# Altium footprint library PcbLib1.PcbLib: 32 footprints (part 1 of 2)
Each footprint in its own frame and in the unit in brackets; x right, y up, seen from the top. Pads: shape width x height; smd on the part's side, far side on the other; paste and mask are expansions set on the pad; w line width, h text height; cw(c..) or ccw(c..) is an arc to the next point about the centre after c.
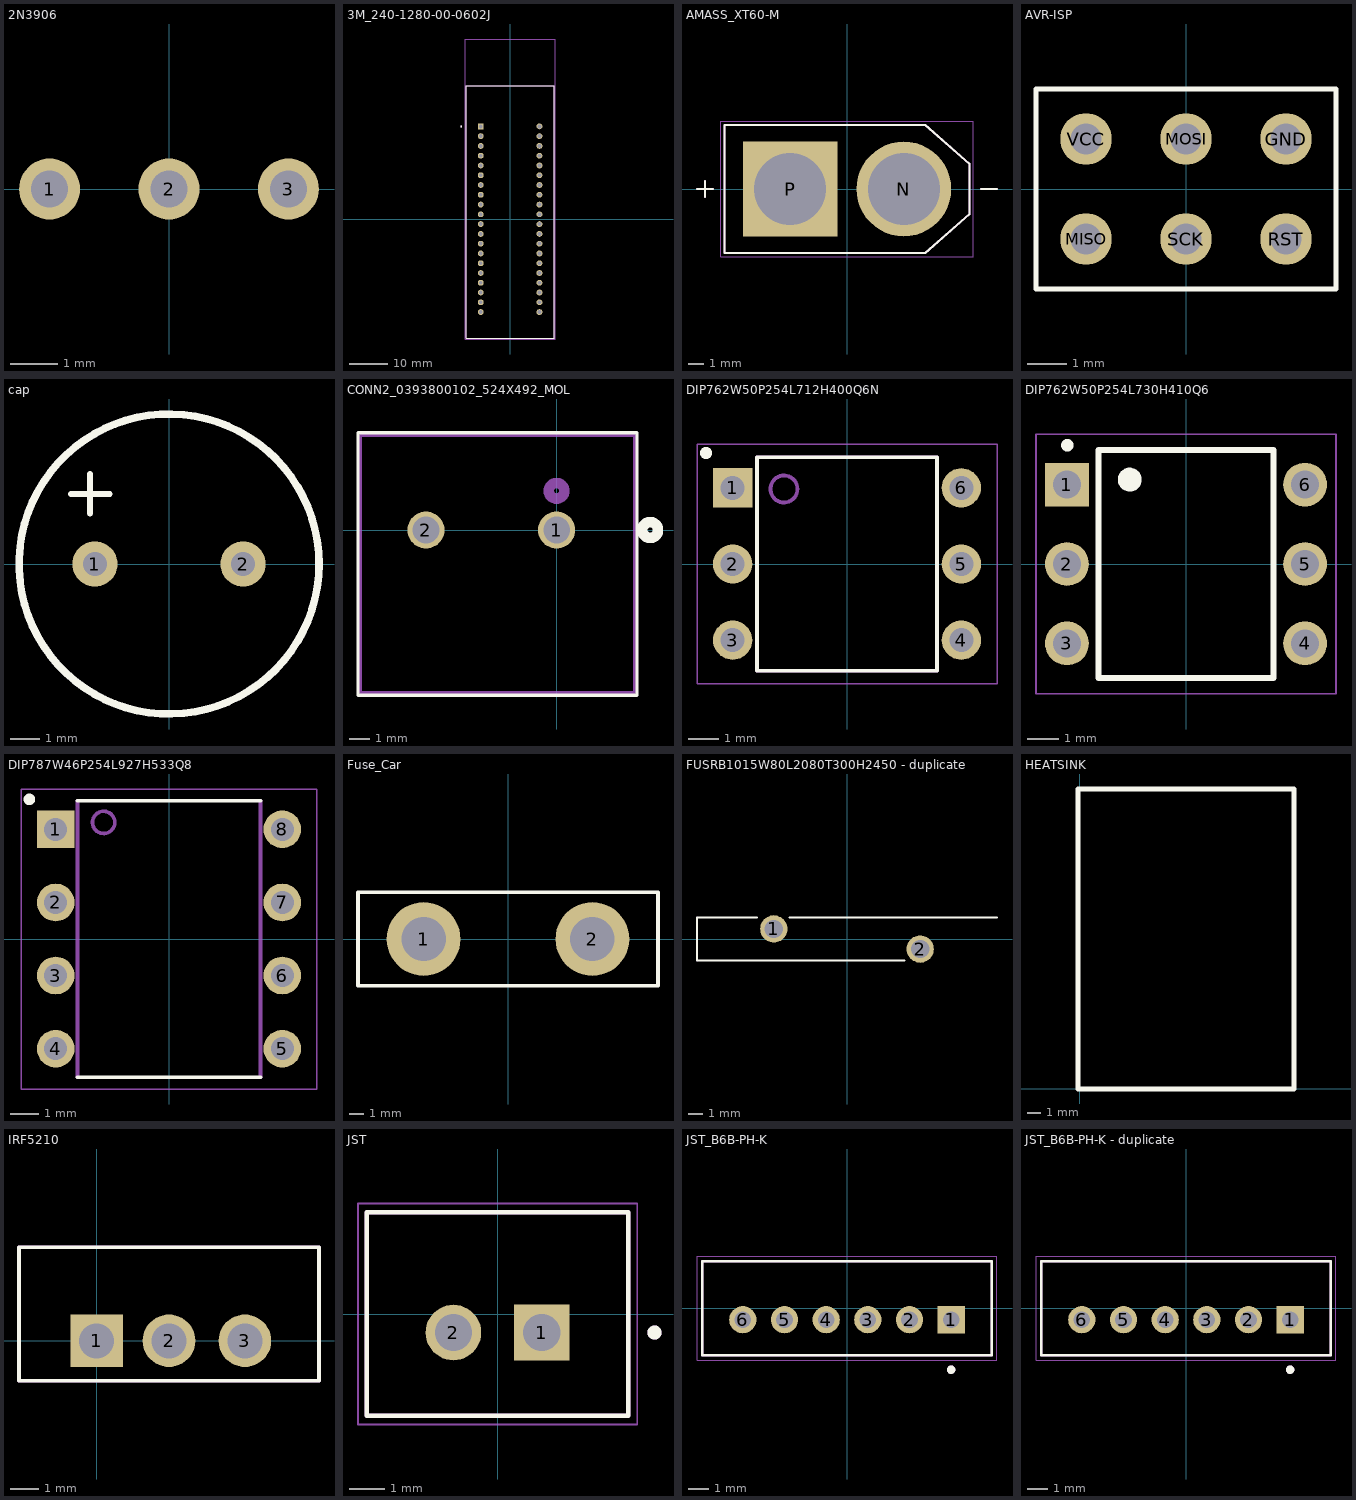
[diagram p0: the footprints below, top view; thin cyan lines are the x and y axes]

## 2N3906 [mm]
height 7.5
pads (3):
  round 1.298 hole 0.79: 1(-2.54,0) 2(0,0) 3(2.54,0)
3D body "step_temp.STEP": height 8.09, standoff -9.01, extent -2.74,-1.27 2.74,2.33

## 3M_240-1280-00-0602J [mm]
height 23.6
pads (40):
  rect 1.508x1.508 / inner round 1.508 / far side rect 1.508x1.508 hole 1: 1(-7.62,24.13)
  round 1.508 hole 1: 2(-7.62,21.59) 3(-7.62,19.05) 4(-7.62,16.51) 5(-7.62,13.97) 6(-7.62,11.43) 7(-7.62,8.89) 8(-7.62,6.35) 9(-7.62,3.81) 10(-7.62,1.27) 11(-7.62,-1.27) 12(-7.62,-3.81) 13(-7.62,-6.35) 14(-7.62,-8.89) 15(-7.62,-11.43) 16(-7.62,-13.97) 17(-7.62,-16.51) 18(-7.62,-19.05) 19(-7.62,-21.59) 20(-7.62,-24.13) 21(7.62,-24.13) 22(7.62,-21.59) 23(7.62,-19.05) 24(7.62,-16.51) 25(7.62,-13.97) 26(7.62,-11.43) 27(7.62,-8.89) 28(7.62,-6.35) 29(7.62,-3.81) 30(7.62,-1.27) 31(7.62,1.27) 32(7.62,3.81) 33(7.62,6.35) 34(7.62,8.89) 35(7.62,11.43) 36(7.62,13.97) 37(7.62,16.51) 38(7.62,19.05) 39(7.62,21.59) 40(7.62,24.13)
Top Overlay:
  circle w0.2: c-12.7,24.13 r0.1
  lines w0.127: -11.45,-30.87 11.45,-30.87 11.45,34.63 -11.45,34.63 -11.45,-30.87
Mechanical 13:
  circle w0.2: c-12.7,24.13 r0.1
  lines w0.127: -11.45,-30.87 11.45,-30.87 11.45,34.63 -11.45,34.63 -11.45,-30.87
Mechanical 15:
  lines w0.05: -11.7,-31.12 -11.7,46.83 11.7,46.83 11.7,-31.12 -11.7,-31.12
3D body "step_temp.STEP": height 23.62, standoff -2.79, extent -11.62,-30.353 12.128,35.179

## AMASS_XT60-M [mm]
height 16
pads (2):
  round 6 hole 4.55: N(3.6,0)
  rect 6x6 / inner round 6 / far side rect 6x6 hole 4.55: P(-3.6,0)
Top Overlay:
  lines w0.127: -9.5,0 -8.5,0 ; -9,-0.5 -9,0.5 ; 8.5,0 9.5,0 ; -7.75,-4.05 -7.75,4.05 4.95,4.05 7.75,1.6 7.75,-1.6 4.95,-4.05 -7.75,-4.05
Mechanical 13:
  lines w0.127: -9.5,0 -8.5,0 ; -9,-0.5 -9,0.5 ; 8.5,0 9.5,0 ; -7.75,-4.05 -7.75,4.05 4.95,4.05 7.75,1.6 7.75,-1.6 4.95,-4.05 -7.75,-4.05
Mechanical 15:
  lines w0.05: -8,-4.3 8,-4.3 8,4.3 -8,4.3 -8,-4.3
3D body "step_temp.STEP": height 16, standoff -4.5, extent -7.75,-4.05 7.75,4.05

## AVR-ISP [mm]
pads (6):
  round 1.308 hole 0.8: GND(2.54,1.27) MISO(-2.54,-1.27) MOSI(0,1.27) RST(2.54,-1.27) SCK(0,-1.27) VCC(-2.54,1.27)
Top Overlay:
  lines w0.127: -3.81,-2.54 3.81,-2.54 3.81,2.54 -3.81,2.54 -3.81,-2.54

## cap [mil]
pads (2):
  round 60 hole 31.5: 1(-98.43,0) 2(98.43,0)
Top Overlay:
  circle w10: c0,0 r199.25
  lines w7.87: -130.31,92.91 -78.74,92.91 ; -104.72,67.32 -104.72,119.29
Board Shape:
  text ".Designator" at 5.91,19.02 h39.37
3D body "EEU-FC1V221E.STEP": height 492.13, standoff -669.29, extent -194,-196.85 199.25,196.85

## CONN2_0393800102_524X492_MOL [mil]
pads (2):
  round 71 hole 51: 1(0,0) 2(-250,0)
Top Overlay:
  lines w6: -380,-316 154,-316 154,186 -380,186 -380,-316
  lines w20: 164,0 ccw(c179,0) 194,0 ccw(c179,0) 164,0
Bottom Overlay:
  lines w20: 164,0 ccw(c179,0) 194,0 ccw(c179,0) 164,0
Mechanical 13:
  lines w6: -375,-311 149,-311 149,181 -375,181 -375,-311
  lines w20: -15,75 ccw(c0,75) 15,75 ccw(c0,75) -15,75

## DIP762W50P254L712H400Q6N [mm]
pads (6):
  rect 1.308x1.308 / inner round 1.308 / far side rect 1.308x1.308 hole 0.8: 1(-3.81,2.54)
  round 1.308 hole 0.8: 2(-3.81,0) 3(-3.81,-2.54) 4(3.81,-2.54) 5(3.81,0) 6(3.81,2.54)
Top Overlay:
  circle w0.2: c-4.7,3.7 r0.1
  lines w0.127: -3,-3.56 3,-3.56 3,3.56 -3,3.56 -3,-3.56
Mechanical 13:
  circle w0.127: c-2.1,2.5 r0.45
  lines w0.127: -3,-3.56 3,-3.56 3,3.56 -3,3.56 -3,-3.56
Mechanical 15:
  lines w0.05: -5,-4 5,-4 5,4 -5,4 -5,-4
3D body "step_temp.STEP": height 4, standoff -3, extent -3.976,-3.56 3.976,3.56

## DIP762W50P254L730H410Q6 [mm]
pads (6):
  rect 1.4x1.4 / inner round 1.4 / far side rect 1.4x1.4 hole 0.9: 1(-3.81,2.54)
  round 1.4 hole 0.9: 2(-3.81,0) 3(-3.81,-2.54) 4(3.81,-2.54) 5(3.81,0) 6(3.81,2.54)
Top Overlay:
  circle w0.2: c-3.8,3.8 r0.1
  circle w0.2: c-1.8,2.7 r0.283
  lines w0.2: -1.8,2.7 -2,2.6 ; -2,2.6 -1.7,2.5 -1.6,2.7 -1.8,2.9 -2,2.6 ; -2.8,-3.65 -2.8,3.65 2.8,3.65 2.8,-3.65 -2.8,-3.65
Mechanical 15:
  lines w0.05: -4.8,-4.15 -4.8,4.15 4.8,4.15 4.8,-4.15 -4.8,-4.15
3D body "step_temp.STEP": height 4.8, standoff -3, extent -4.446,-3.71 4.446,3.71

## DIP787W46P254L927H533Q8 [mm]
pads (8):
  rect 1.308x1.308 / inner round 1.308 / far side rect 1.308x1.308 hole 0.8 mask+0.102: 1(-3.935,3.81)
  round 1.308 hole 0.8 mask+0.102: 2(-3.935,1.27) 3(-3.935,-1.27) 4(-3.935,-3.81) 5(3.935,-3.81) 6(3.935,-1.27) 7(3.935,1.27) 8(3.935,3.81)
Top Overlay:
  circle w0.2: c-4.85,4.85 r0.1
  lines w0.127: -3.18,-4.8 3.18,-4.8 ; -3.18,4.8 3.18,4.8
Mechanical 13:
  circle w0.127: c-2.27,4.05 r0.386
  lines w0.127: -3.18,-4.8 -3.18,4.8 ; 3.18,-4.8 3.18,4.8
Mechanical 15:
  lines w0.05: -5.13,-5.21 -5.13,5.21 5.13,5.21 5.13,-5.21 -5.13,-5.21
3D body "step_temp.STEP": height 4.32, standoff -3, extent -4.185,-4.89 4.185,4.89

## Fuse_Car [mm]
pads (2):
  round 5 hole 3: 1(-5.715,0) 2(5.715,0)
Top Overlay:
  lines w0.254: -10.16,-3.175 -10.16,3.175 10.16,3.175 10.16,-3.175 -10.16,-3.175
3D body "Fuse_Blade - 1 to 40A - 32V.SLDPRT": height 12.31, standoff -6.49, extent -9.55,-2.56 9.55,2.54

## FUSRB1015W80L2080T300H2450 - duplicate [mm]
pads (2):
  round 1.894 hole 1.263: 1(-5.075,0.7) 2(5.075,-0.7)
Top Overlay:
  lines w0.127: -6.25,1.5 -10.4,1.5 -10.4,-1.5 4,-1.5 ; -4,1.5 10.4,1.5
Mechanical 13:
  lines w0.127: -10.4,-1.5 -10.4,1.5
3D body "step_temp.STEP": height 25.4, standoff -7.6, extent -10.4,-1.5 10.4,1.5

## HEATSINK [mil]
Top Overlay:
  lines w14.57: -5,0 -5,890 635,890 635,0 -5,0

## IRF5210 [mm]
height 19.3
pads (3):
  rect 1.85x1.85 / inner round 1.85 / far side rect 1.85x1.85 hole 1.23: 1(0,0)
  round 1.85 hole 1.23: 2(2.54,0) 3(5.207,0)
Top Overlay:
  lines w0.127: -2.73,-1.41 7.81,-1.41 7.81,3.29 -2.73,3.29 -2.73,-1.41
Mechanical 13:
  lines w0.127: -2.73,-1.41 7.81,-1.41 7.81,3.29 -2.73,3.29 -2.73,-1.41
3D body "step_temp.STEP": height 19.3, standoff -10.03, extent -2.921,-1.27 7.493,3.175

## JST [mm]
height 7
pads (2):
  rect 1.575x1.575 / inner round 1.575 / far side rect 1.575x1.575 hole 1.05: 1(1.25,-0.525)
  round 1.575 hole 1.05: 2(-1.25,-0.525)
Top Overlay:
  circle w0.2: c4.44,-0.525 r0.1
  lines w0.127: -3.7,-2.875 3.7,-2.875 3.7,2.875 -3.7,2.875 -3.7,-2.875
Mechanical 13:
  circle w0.2: c4.44,-0.525 r0.1
  lines w0.127: -3.7,-2.875 3.7,-2.875 3.7,2.875 -3.7,2.875 -3.7,-2.875
Mechanical 15:
  lines w0.05: -3.95,-3.125 -3.95,3.125 3.95,3.125 3.95,-3.125 -3.95,-3.125

## JST_B6B-PH-K [mm]
pads (6):
  rect 1.308x1.308 / inner round 1.308 / far side rect 1.308x1.308 hole 0.8: 1(5,-0.55)
  round 1.308 hole 0.8: 2(3,-0.55) 3(1,-0.55) 4(-1,-0.55) 5(-3,-0.55) 6(-5,-0.55)
Top Overlay:
  circle w0.2: c5,-2.95 r0.1
  lines w0.127: -6.95,-2.25 -6.95,2.25 6.95,2.25 6.95,-2.25 -6.95,-2.25
Mechanical 13:
  circle w0.2: c5,-2.95 r0.1
  lines w0.127: -6.95,-2.25 6.95,-2.25 6.95,2.25 -6.95,2.25 -6.95,-2.25
Mechanical 15:
  lines w0.05: -7.2,-2.5 7.2,-2.5 7.2,2.5 -7.2,2.5 -7.2,-2.5
3D body "step_temp.STEP": height 6, standoff -3.42, extent -6.95,-2.8 6.95,1.7

## JST_B6B-PH-K - duplicate [mm]
pads (6):
  rect 1.308x1.308 / inner round 1.308 / far side rect 1.308x1.308 hole 0.8: 1(5,-0.55)
  round 1.308 hole 0.8: 2(3,-0.55) 3(1,-0.55) 4(-1,-0.55) 5(-3,-0.55) 6(-5,-0.55)
Top Overlay:
  circle w0.2: c5,-2.95 r0.1
  lines w0.127: -6.95,-2.25 6.95,-2.25 6.95,2.25 -6.95,2.25 -6.95,-2.25
Mechanical 13:
  circle w0.2: c5,-2.95 r0.1
  lines w0.127: -6.95,-2.25 -6.95,2.25 6.95,2.25 6.95,-2.25 -6.95,-2.25
Mechanical 15:
  lines w0.05: -7.2,-2.5 -7.2,2.5 7.2,2.5 7.2,-2.5 -7.2,-2.5
3D body "step_temp.STEP": height 6, standoff -3.42, extent -6.95,-2.8 6.95,1.7